# Altium footprint library CA-C03.PcbLib: 1 footprints
Each footprint in its own frame and in the unit in brackets; x right, y up, seen from the top. Pads: shape width x height; smd on the part's side, far side on the other; paste and mask are expansions set on the pad; w line width, h text height; cw(c..) or ccw(c..) is an arc to the next point about the centre after c.
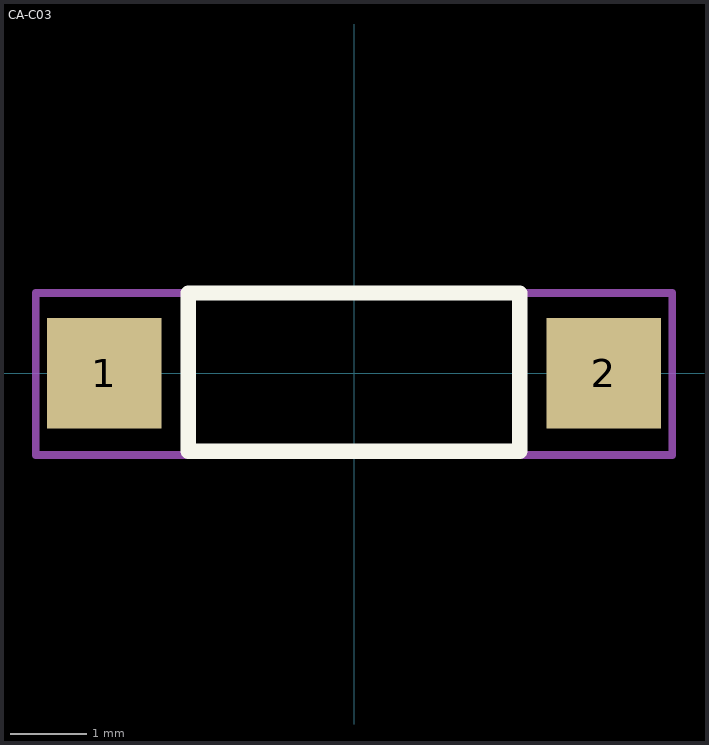
[diagram p0: the footprint, top view; thin cyan lines are the x and y axes]

## CA-C03 [mm]
height 0.55
pads (2):
  rect 1.5x1.45 smd: 1(-3.275,0) 2(3.275,0)
Top Overlay:
  lines w0.2: -2.175,-1.025 -2.175,1.05 2.175,1.05 2.175,-1.025 -2.175,-1.025
Top Assembly:
  lines w0.1: -4.175,-1.075 -4.175,1.05 4.175,1.05 4.175,-1.075 -4.175,-1.075
  text "'.Designator'" at 0,0 h0.7
3D body "CA-C03_3DModel.step": height 1.03, standoff 0, extent -3.25,-1 3.25,1